# EAGLE library part FDC1004DSCJ (library Parts)
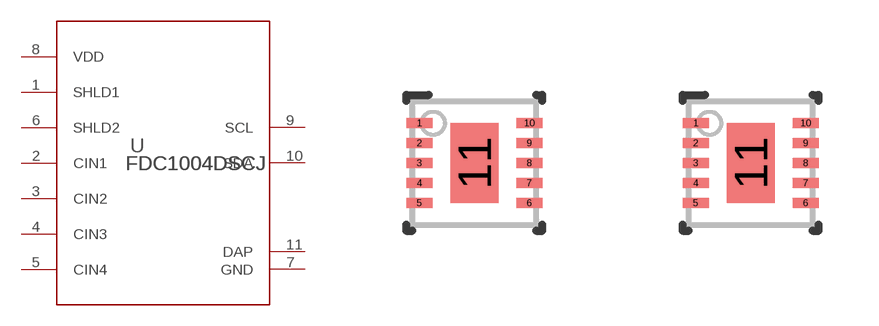
[diagram p3: symbol with the pads of DSC0010B; footprints DSC0010B, DSC0010B_NV]

Designator prefix U

## FDC1004DSCJ (COPYRIGHT: Copyright (C) 2021 Ultra Librarian. All rights reserved.; MANUFACTURER_PART_NUMBER: FDC1004DSCJ; MFR_NAME: Texas Instruments; REFDES: RefDes; TYPE: TYPE)  [DSC0010B]
1  SHLD1  out
2  CIN1  in
3  CIN2  in
4  CIN3  in
5  CIN4  in
6  SHLD2  out
7  GND  pwr
8  VDD  pwr
9  SCL  in
10  SDA
11  DAP  pas

## FDC1004DSCJDSC0010B_NV (COPYRIGHT: Copyright (C) 2021 Ultra Librarian. All rights reserved.; MANUFACTURER_PART_NUMBER: FDC1004DSCJ; MFR_NAME: Texas Instruments; REFDES: RefDes; TYPE: TYPE)  [DSC0010B_NV]
Pads as for DSC0010B

## Footprint DSC0010B (pad centres in mm)
smd 0.65 x 0.25: 1 -1.375,1; 2 -1.375,0.5; 3 -1.375,0; 4 -1.375,-0.5; 5 -1.375,-1; 6 1.375,-1; 7 1.375,-0.5; 8 1.375,0; 9 1.375,0.5; 10 1.375,1
smd 1.2 x 2: 11 0,0

## Footprint DSC0010B_NV (pad centres in mm)
smd 0.65 x 0.25: 1 -1.375,1; 2 -1.375,0.5; 3 -1.375,0; 4 -1.375,-0.5; 5 -1.375,-1; 6 1.375,-1; 7 1.375,-0.5; 8 1.375,0; 9 1.375,0.5; 10 1.375,1
smd 1.2 x 2: 11 0,0